# EAGLE library part ATMEGA2560 (library vincent)
Atmel 100-pin 8-bit uC 64/128/256 Kbytes FLASH 4 Kbytes EEPROM 8 Kbytes SRAM 86 General Purpose I/O pins 12-channels16-bit PWM 4 x Serial USARTs 16-channels 10-bit A/D
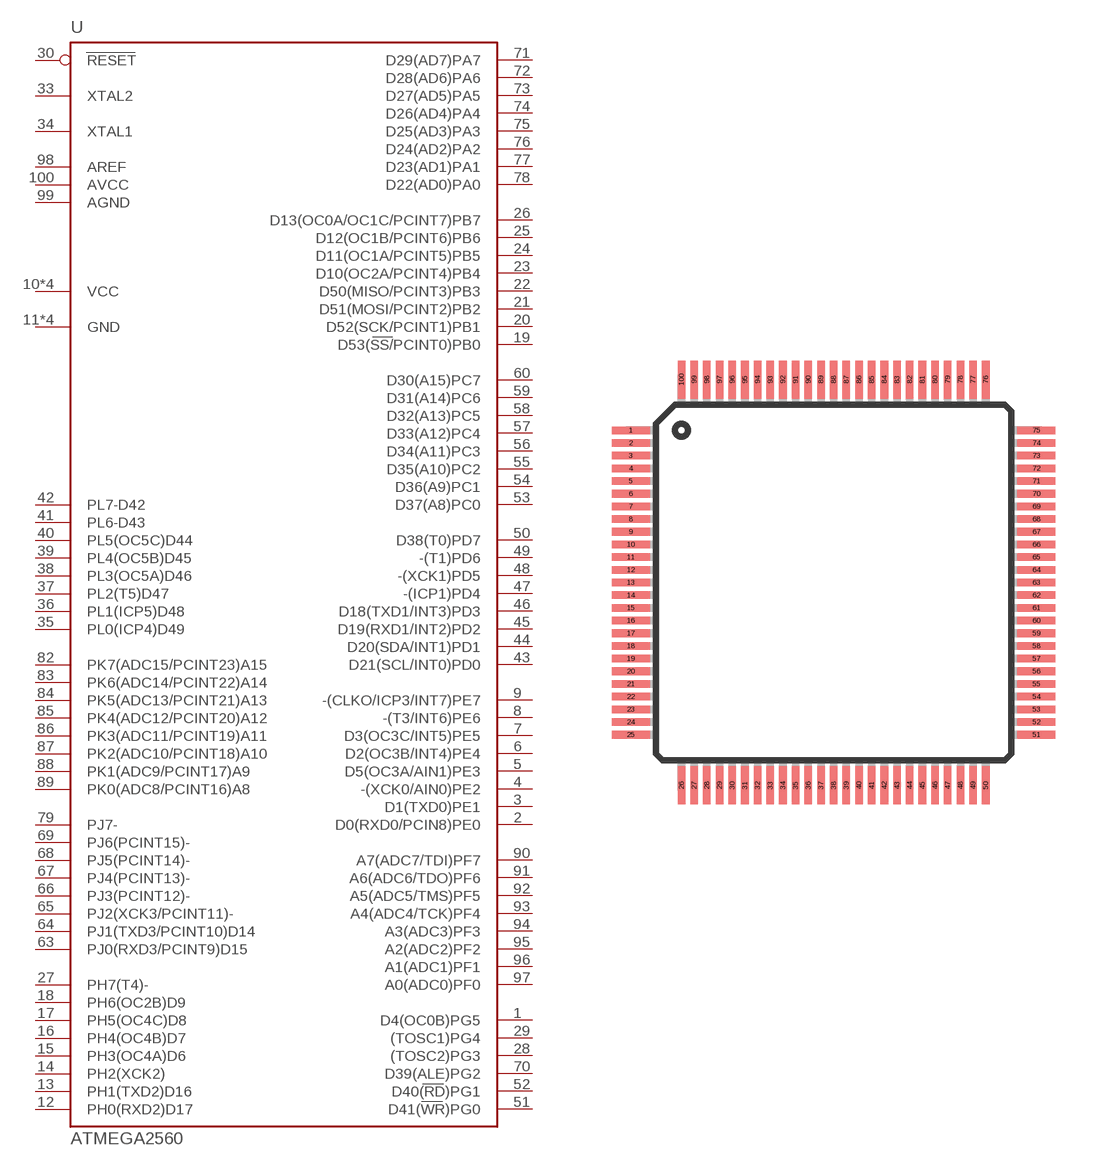
[diagram p7: symbol with the pads of TQFP100; footprint TQFP100]

Designator prefix U

## ATMEGA2560AU  [TQFP100]
1  D4(OC0B)PG5
2  D0(RXD0/PCIN8)PE0
3  D1(TXD0)PE1
4  -(XCK0/AIN0)PE2
5  D5(OC3A/AIN1)PE3
6  D2(OC3B/INT4)PE4
7  D3(OC3C/INT5)PE5
8  -(T3/INT6)PE6
9  -(CLKO/ICP3/INT7)PE7
10  VCC  pwr
11  GND  pwr
12  PH0(RXD2)D17
13  PH1(TXD2)D16
14  PH2(XCK2)
15  PH3(OC4A)D6
16  PH4(OC4B)D7
17  PH5(OC4C)D8
18  PH6(OC2B)D9
19  D53(SS/PCINT0)PB0
20  D52(SCK/PCINT1)PB1
21  D51(MOSI/PCINT2)PB2
22  D50(MISO/PCINT3)PB3
23  D10(OC2A/PCINT4)PB4
24  D11(OC1A/PCINT5)PB5
25  D12(OC1B/PCINT6)PB6
26  D13(OC0A/OC1C/PCINT7)PB7
27  PH7(T4)-
28  (TOSC2)PG3
29  (TOSC1)PG4
30  RESET  in
31  VCC  pwr
32  GND  pwr
33  XTAL2  out
34  XTAL1  in
35  PL0(ICP4)D49
36  PL1(ICP5)D48
37  PL2(T5)D47
38  PL3(OC5A)D46
39  PL4(OC5B)D45
40  PL5(OC5C)D44
41  PL6-D43
42  PL7-D42
43  D21(SCL/INT0)PD0
44  D20(SDA/INT1)PD1
45  D19(RXD1/INT2)PD2
46  D18(TXD1/INT3)PD3
47  -(ICP1)PD4
48  -(XCK1)PD5
49  -(T1)PD6
50  D38(T0)PD7
51  D41(WR)PG0
52  D40(RD)PG1
53  D37(A8)PC0
54  D36(A9)PC1
55  D35(A10)PC2
56  D34(A11)PC3
57  D33(A12)PC4
58  D32(A13)PC5
59  D31(A14)PC6
60  D30(A15)PC7
61  VCC  pwr
62  GND  pwr
63  PJ0(RXD3/PCINT9)D15
64  PJ1(TXD3/PCINT10)D14
65  PJ2(XCK3/PCINT11)-
66  PJ3(PCINT12)-
67  PJ4(PCINT13)-
68  PJ5(PCINT14)-
69  PJ6(PCINT15)-
70  D39(ALE)PG2
71  D29(AD7)PA7
72  D28(AD6)PA6
73  D27(AD5)PA5
74  D26(AD4)PA4
75  D25(AD3)PA3
76  D24(AD2)PA2
77  D23(AD1)PA1
78  D22(AD0)PA0
79  PJ7-
80  VCC  pwr
81  GND  pwr
82  PK7(ADC15/PCINT23)A15
83  PK6(ADC14/PCINT22)A14
84  PK5(ADC13/PCINT21)A13
85  PK4(ADC12/PCINT20)A12
86  PK3(ADC11/PCINT19)A11
87  PK2(ADC10/PCINT18)A10
88  PK1(ADC9/PCINT17)A9
89  PK0(ADC8/PCINT16)A8
90  A7(ADC7/TDI)PF7
91  A6(ADC6/TDO)PF6
92  A5(ADC5/TMS)PF5
93  A4(ADC4/TCK)PF4
94  A3(ADC3)PF3
95  A2(ADC2)PF2
96  A1(ADC1)PF1
97  A0(ADC0)PF0
98  AREF
99  AGND  pwr
100  AVCC  pwr

## Footprint TQFP100 (pad centres in mm)
100-lead Thin Quad Flat Pack Package Outline
smd 1.5 x 0.3: 1 -8,6; 2 -8,5.5; 3 -8,5; 4 -8,4.5; 5 -8,4; 6 -8,3.5; 7 -8,3; 8 -8,2.5; 9 -8,2; 10 -8,1.5; 11 -8,1; 12 -8,0.5; 13 -8,0; 14 -8,-0.5; 15 -8,-1; 16 -8,-1.5; 17 -8,-2; 18 -8,-2.5; 19 -8,-3; 20 -8,-3.5; 21 -8,-4; 22 -8,-4.5; 23 -8,-5; 24 -8,-5.5; 25 -8,-6; 51 8,-6; 52 8,-5.5; 53 8,-5; 54 8,-4.5; 55 8,-4; 56 8,-3.5; 57 8,-3; 58 8,-2.5; 59 8,-2; 60 8,-1.5; 61 8,-1; 62 8,-0.5; 63 8,0; 64 8,0.5; 65 8,1; 66 8,1.5; 67 8,2; 68 8,2.5; 69 8,3; 70 8,3.5; 71 8,4; 72 8,4.5; 73 8,5; 74 8,5.5; 75 8,6
smd 0.3 x 1.5: 26 -6,-8; 27 -5.5,-8; 28 -5,-8; 29 -4.5,-8; 30 -4,-8; 31 -3.5,-8; 32 -3,-8; 33 -2.5,-8; 34 -2,-8; 35 -1.5,-8; 36 -1,-8; 37 -0.5,-8; 38 0,-8; 39 0.5,-8; 40 1,-8; 41 1.5,-8; 42 2,-8; 43 2.5,-8; 44 3,-8; 45 3.5,-8; 46 4,-8; 47 4.5,-8; 48 5,-8; 49 5.5,-8; 50 6,-8; 76 6,8; 77 5.5,8; 78 5,8; 79 4.5,8; 80 4,8; 81 3.5,8; 82 3,8; 83 2.5,8; 84 2,8; 85 1.5,8; 86 1,8; 87 0.5,8; 88 0,8; 89 -0.5,8; 90 -1,8; 91 -1.5,8; 92 -2,8; 93 -2.5,8; 94 -3,8; 95 -3.5,8; 96 -4,8; 97 -4.5,8; 98 -5,8; 99 -5.5,8; 100 -6,8